# Altium footprint library TXS0102DQER.PcbLib: 1 footprints
Each footprint in its own frame and in the unit in brackets; x right, y up, seen from the top. Pads: shape width x height; smd on the part's side, far side on the other; paste and mask are expansions set on the pad; w line width, h text height; cw(c..) or ccw(c..) is an arc to the next point about the centre after c.
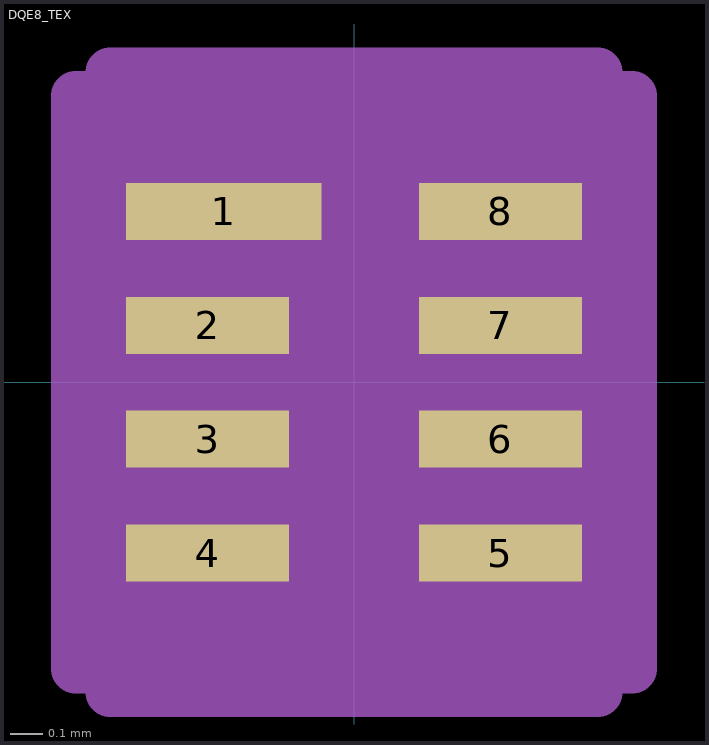
[diagram p0: the footprint, top view; thin cyan lines are the x and y axes]

## DQE8_TEX [mm]
pads (8):
  rect 0.6x0.175 smd paste+0 mask+0.05: 1(-0.4,0.525)
  rect 0.5x0.175 smd paste+0 mask+0.05: 2(-0.45,0.175) 3(-0.45,-0.175) 4(-0.45,-0.525) 5(0.45,-0.525) 6(0.45,-0.175) 7(0.45,0.175) 8(0.45,0.525)
Mechanical 13:
  circle w0: c-0.068,0.525 r0.076
  lines w0: -0.305,0.699 ccw(c0,0.699) 0.305,0.698
  lines w0.025: -0.495,-0.699 -0.495,0.699 0.495,0.699 0.495,-0.699 -0.495,-0.699
Mechanical 15:
  region: -0.749,-0.881 -0.856,-0.881 -0.856,0.881 -0.749,0.881 -0.749,0.953 0.749,0.953 0.749,0.881 0.856,0.881 0.856,-0.881 0.749,-0.881 0.749,-0.953 -0.749,-0.953
  lines w0.152: -0.856,-0.881 -0.749,-0.881 -0.749,-0.953 0.749,-0.953 0.749,-0.881 0.856,-0.881 0.856,0.881 0.749,0.881 0.749,0.953 -0.749,0.953 -0.749,0.881 -0.856,0.881 -0.856,-0.881
3D body "DQE8_TEX.step": height 0.41, standoff 0, extent -0.495,-0.698 0.495,0.698